# EAGLE library part DS8641 (library untitled)
Quad Unified Bus TransceiverBUS TRANSCEIVER
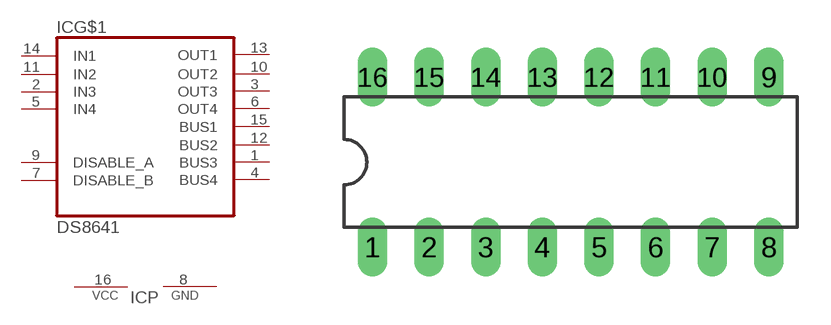
[diagram p0: symbol with the pads of DIL16; footprint DIL16]

Designator prefix IC; gates P=PWRN G$1=8641

## DS8641N  [DIL16]
1  G$1:BUS3
2  G$1:IN3  in
3  G$1:OUT3  out
4  G$1:BUS4
5  G$1:IN4  in
6  G$1:OUT4  out
7  G$1:DISABLE_B  in
8  P:GND  pwr
9  G$1:DISABLE_A  in
10  G$1:OUT2  out
11  G$1:IN2  in
12  G$1:BUS2
13  G$1:OUT1  out
14  G$1:IN1  in
15  G$1:BUS1
16  P:VCC  pwr

## Footprint DIL16 (pad centres in mm)
Dual In Line Package
drill 0.813 long: 1 -8.89,-3.81; 2 -6.35,-3.81; 3 -3.81,-3.81; 4 -1.27,-3.81; 5 1.27,-3.81; 6 3.81,-3.81; 7 6.35,-3.81; 8 8.89,-3.81; 9 8.89,3.81; 10 6.35,3.81; 11 3.81,3.81; 12 1.27,3.81; 13 -1.27,3.81; 14 -3.81,3.81; 15 -6.35,3.81; 16 -8.89,3.81